# Altium footprint library Resistors_SMD_IPC.PcbLib: 12 footprints
Each footprint in its own frame and in the unit in brackets; x right, y up, seen from the top. Pads: shape width x height; smd on the part's side, far side on the other; paste and mask are expansions set on the pad; w line width, h text height; cw(c..) or ccw(c..) is an arc to the next point about the centre after c.
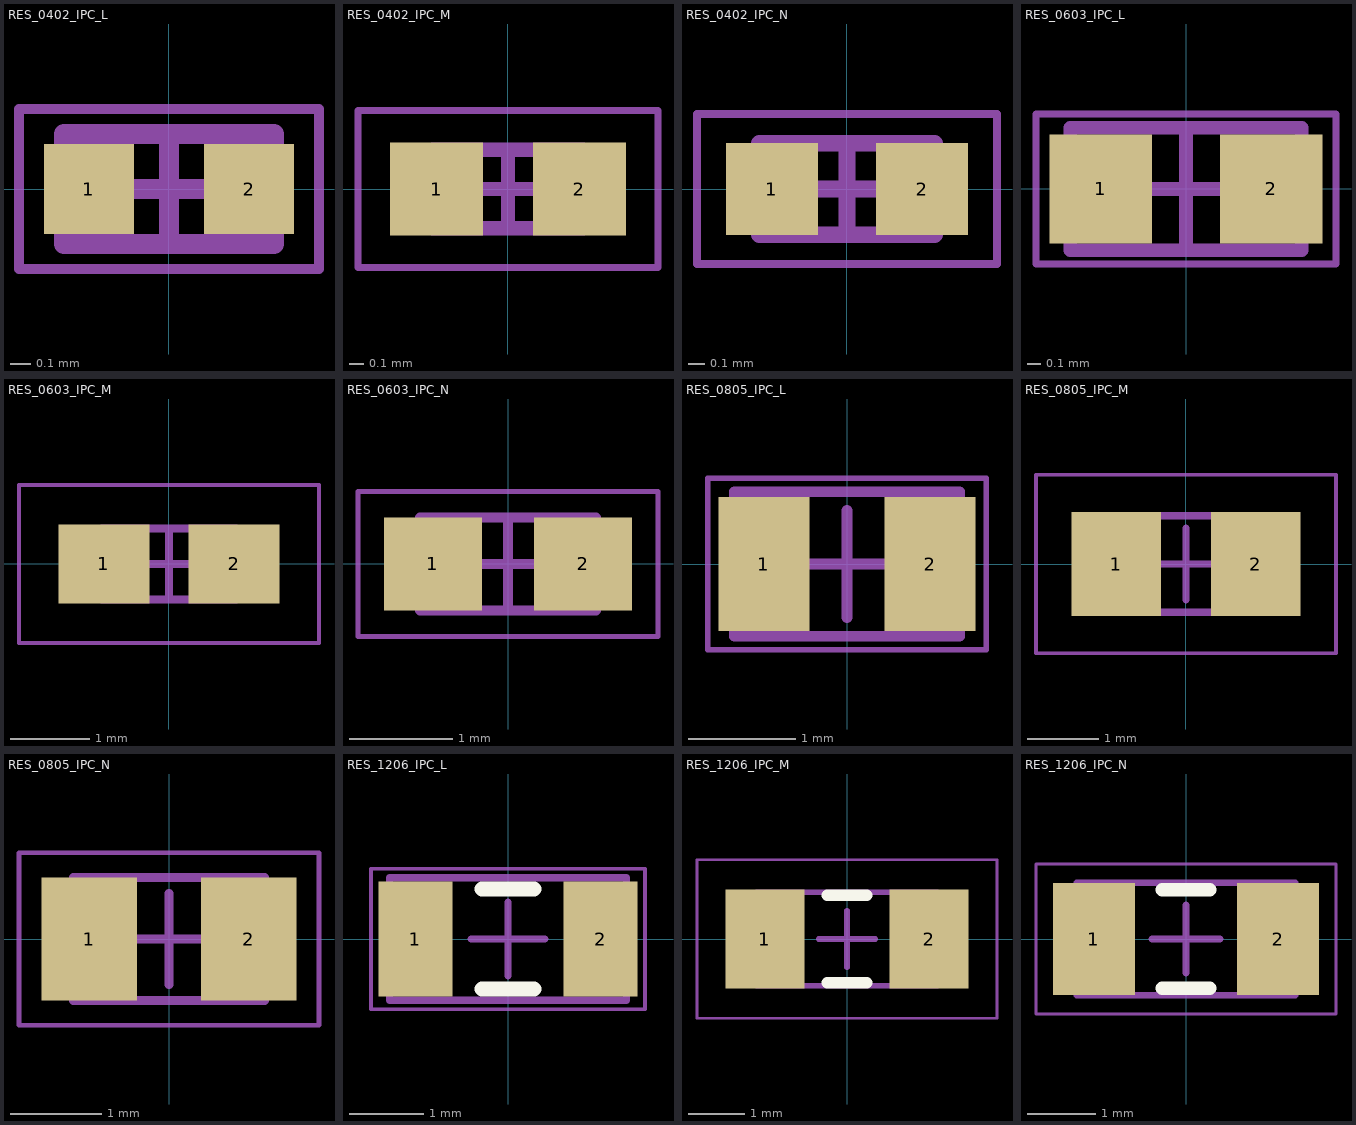
[diagram p0: the footprints below, top view; thin cyan lines are the x and y axes]

## RES_0402_IPC_L [mm] "Chip resistor 0402 (1.00x0.50x0.35mm) - IPC Least"
height 0.4
pads (2):
  rect 0.45x0.45 smd: 1(-0.4,0) 2(0.4,0)
Mechanical 13:
  lines w0.1: -0.525,-0.275 0.525,-0.275 0.525,0.275 -0.525,0.275 -0.525,-0.275
Mechanical 15:
  lines w0.05: -0.75,-0.4 0.75,-0.4 0.75,0.4 -0.75,0.4 -0.75,-0.4
  lines w0.1: -0.275,0 0.275,0 ; 0,-0.275 0,0.275
3D body "RESC1005X04L.step": height 0.4, standoff 0, extent -0.525,-0.275 0.525,0.275

## RES_0402_IPC_M [mm] "Chip resistor 0402 (1.00x0.50x0.35mm) - IPC Most"
height 0.4
pads (2):
  rect 0.65x0.65 smd: 1(-0.5,0) 2(0.5,0)
Mechanical 13:
  lines w0.1: -0.525,-0.275 0.525,-0.275 0.525,0.275 -0.525,0.275 -0.525,-0.275
Mechanical 15:
  lines w0.05: -1.05,-0.55 1.05,-0.55 1.05,0.55 -1.05,0.55 -1.05,-0.55
  lines w0.1: -0.275,0 0.275,0 ; 0,-0.275 0,0.275
3D body "RESC1005X04M.step": height 0.4, standoff 0, extent -0.525,-0.275 0.525,0.275

## RES_0402_IPC_N [mm] "Chip resistor 0402 (1.00x0.50x0.35mm) - IPC Nominal"
height 0.4
pads (2):
  rect 0.55x0.55 smd: 1(-0.45,0) 2(0.45,0)
Mechanical 13:
  lines w0.1: -0.525,-0.275 0.525,-0.275 0.525,0.275 -0.525,0.275 -0.525,-0.275
Mechanical 15:
  lines w0.05: -0.9,-0.45 0.9,-0.45 0.9,0.45 -0.9,0.45 -0.9,-0.45
  lines w0.1: -0.275,0 0.275,0 ; 0,-0.275 0,0.275
3D body "RESC1005X04N.step": height 0.4, standoff 0, extent -0.525,-0.275 0.525,0.275

## RES_0603_IPC_L [mm] "Chip resistor 0603 (1.60x0.80x0.45mm) - IPC Least"
height 0.55
pads (2):
  rect 0.75x0.8 smd: 1(-0.625,0) 2(0.625,0)
Mechanical 13:
  lines w0.1: -0.85,-0.45 0.85,-0.45 0.85,0.45 -0.85,0.45 -0.85,-0.45
Mechanical 15:
  lines w0.05: -1.1,-0.55 1.1,-0.55 1.1,0.55 -1.1,0.55 -1.1,-0.55
  lines w0.1: -0.45,0 0.45,0 ; 0,-0.45 0,0.45
3D body "RESC1608X06L.step": height 0.55, standoff 0, extent -0.85,-0.45 0.85,0.45

## RES_0603_IPC_M [mm] "Chip resistor 0603 (1.60x0.80x0.45mm) - IPC Most"
height 0.55
pads (2):
  rect 1.15x1 smd: 1(-0.825,0) 2(0.825,0)
Mechanical 13:
  lines w0.1: -0.85,-0.45 0.85,-0.45 0.85,0.45 -0.85,0.45 -0.85,-0.45
Mechanical 15:
  lines w0.05: -1.9,-1 1.9,-1 1.9,1 -1.9,1 -1.9,-1
  lines w0.1: -0.45,0 0.45,0 ; 0,-0.45 0,0.45
3D body "RESC1608X06M.step": height 0.55, standoff 0, extent -0.85,-0.45 0.85,0.45

## RES_0603_IPC_N [mm] "Chip resistor 0603 (1.60x0.80x0.45mm) - IPC Nominal"
height 0.55
pads (2):
  rect 0.95x0.9 smd: 1(-0.725,0) 2(0.725,0)
Mechanical 13:
  lines w0.1: -0.85,-0.45 0.85,-0.45 0.85,0.45 -0.85,0.45 -0.85,-0.45
Mechanical 15:
  lines w0.05: -1.45,-0.7 1.45,-0.7 1.45,0.7 -1.45,0.7 -1.45,-0.7
  lines w0.1: -0.45,0 0.45,0 ; 0,-0.45 0,0.45
3D body "RESC1608X06N.step": height 0.55, standoff 0, extent -0.85,-0.45 0.85,0.45

## RES_0805_IPC_L [mm] "Chip resistor 0805 (2.00x1.25x0.50mm) - IPC Least"
height 0.6
pads (2):
  rect 0.85x1.25 smd: 1(-0.775,0) 2(0.775,0)
Mechanical 13:
  lines w0.1: -1.05,-0.675 1.05,-0.675 1.05,0.675 -1.05,0.675 -1.05,-0.675
Mechanical 15:
  lines w0.05: -1.3,-0.8 1.3,-0.8 1.3,0.8 -1.3,0.8 -1.3,-0.8
  lines w0.1: -0.5,0 0.5,0 ; 0,-0.5 0,0.5
3D body "RESC2012X06L.step": height 0.6, standoff 0, extent -1.05,-0.675 1.05,0.675

## RES_0805_IPC_M [mm] "Chip resistor 0805 (2.00x1.25x0.50mm) - IPC Most"
height 0.6
pads (2):
  rect 1.25x1.45 smd: 1(-0.975,0) 2(0.975,0)
Mechanical 13:
  lines w0.1: -1.05,-0.675 1.05,-0.675 1.05,0.675 -1.05,0.675 -1.05,-0.675
Mechanical 15:
  lines w0.05: -2.1,-1.25 2.1,-1.25 2.1,1.25 -2.1,1.25 -2.1,-1.25
  lines w0.1: -0.5,0 0.5,0 ; 0,-0.5 0,0.5
3D body "RESC2012X06M.step": height 0.6, standoff 0, extent -1.05,-0.675 1.05,0.675

## RES_0805_IPC_N [mm] "Chip resistor 0805 (2.00x1.25x0.50mm) - IPC Nominal"
height 0.6
pads (2):
  rect 1.05x1.35 smd: 1(-0.875,0) 2(0.875,0)
Mechanical 13:
  lines w0.1: -1.05,-0.675 1.05,-0.675 1.05,0.675 -1.05,0.675 -1.05,-0.675
Mechanical 15:
  lines w0.05: -1.65,-0.95 1.65,-0.95 1.65,0.95 -1.65,0.95 -1.65,-0.95
  lines w0.1: -0.5,0 0.5,0 ; 0,-0.5 0,0.5
3D body "RESC2012X06N.step": height 0.6, standoff 0, extent -1.05,-0.675 1.05,0.675

## RES_1206_IPC_L [mm] "Chip resistor 1206 (3.10x1.55x0.55mm) - IPC Least"
height 0.65
pads (2):
  rect 1x1.55 smd: 1(-1.25,0) 2(1.25,0)
Top Overlay:
  lines w0.2: -0.35,-0.675 0.35,-0.675 ; -0.35,0.675 0.35,0.675
Mechanical 13:
  lines w0.1: -1.6,-0.825 1.6,-0.825 1.6,0.825 -1.6,0.825 -1.6,-0.825
Mechanical 15:
  lines w0.05: -1.85,-0.95 1.85,-0.95 1.85,0.95 -1.85,0.95 -1.85,-0.95
  lines w0.1: -0.5,0 0.5,0 ; 0,-0.5 0,0.5
3D body "RESC3115X06L.step": height 0.65, standoff 0, extent -1.6,-0.825 1.6,0.825

## RES_1206_IPC_M [mm] "Chip resistor 1206 (3.10x1.55x0.55mm) - IPC Most"
height 0.65
pads (2):
  rect 1.4x1.75 smd: 1(-1.45,0) 2(1.45,0)
Top Overlay:
  lines w0.2: -0.35,-0.775 0.35,-0.775 ; -0.35,0.775 0.35,0.775
Mechanical 13:
  lines w0.1: -1.6,-0.825 1.6,-0.825 1.6,0.825 -1.6,0.825 -1.6,-0.825
Mechanical 15:
  lines w0.05: -2.65,-1.4 2.65,-1.4 2.65,1.4 -2.65,1.4 -2.65,-1.4
  lines w0.1: -0.5,0 0.5,0 ; 0,-0.5 0,0.5
3D body "RESC3115X06M.step": height 0.65, standoff 0, extent -1.6,-0.825 1.6,0.825

## RES_1206_IPC_N [mm] "Chip resistor 1206 (3.10x1.55x0.55mm) - IPC Nominal"
height 0.65
pads (2):
  rect 1.2x1.65 smd: 1(-1.35,0) 2(1.35,0)
Top Overlay:
  lines w0.2: -0.35,-0.725 0.35,-0.725 ; -0.35,0.725 0.35,0.725
Mechanical 13:
  lines w0.1: -1.6,-0.825 1.6,-0.825 1.6,0.825 -1.6,0.825 -1.6,-0.825
Mechanical 15:
  lines w0.05: -2.2,-1.1 2.2,-1.1 2.2,1.1 -2.2,1.1 -2.2,-1.1
  lines w0.1: -0.5,0 0.5,0 ; 0,-0.5 0,0.5
3D body "RESC3115X06N.step": height 0.65, standoff 0, extent -1.6,-0.825 1.6,0.825